# Altium footprint library 2019-03-18_20-52-44.PcbLib: 3 footprints
Each footprint in its own frame and in the unit in brackets; x right, y up, seen from the top. Pads: shape width x height; smd on the part's side, far side on the other; paste and mask are expansions set on the pad; w line width, h text height; cw(c..) or ccw(c..) is an arc to the next point about the centre after c.
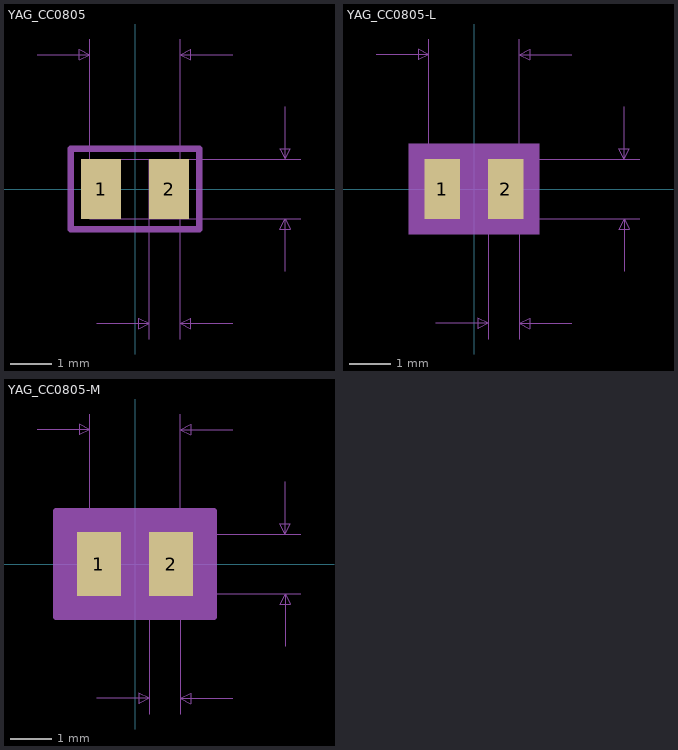
[diagram p0: the footprints below, top view; thin cyan lines are the x and y axes]

## YAG_CC0805 [mil]
pads (2):
  rect 38x57 smd paste+0 mask+0: 1(-32.5,0) 2(32.5,0)
Mechanical 7:
  lines w1: -93.5,128.5 -43.5,128.5 ; -43.5,0 -43.5,143.5 ; -36.5,-128.5 13.5,-128.5 ; 0,-28.5 158.5,-28.5 ; 0,28.5 158.5,28.5 ; 13.5,-143.5 13.5,0 ; 43.5,-143.5 43.5,0 43.5,143.5 ; 93.5,-128.5 43.5,-128.5 ; 93.5,128.5 43.5,128.5 ; 143.5,-78.5 143.5,-28.5 ; 143.5,78.5 143.5,28.5 ; -43.5,128.5 -53.5,123.5 -53.5,133.5 -43.5,128.5 ; 13.5,-128.5 3.5,-133.5 3.5,-123.5 13.5,-128.5 ; 43.5,-128.5 53.5,-133.5 53.5,-123.5 43.5,-128.5 ; 43.5,128.5 53.5,123.5 53.5,133.5 43.5,128.5 ; 143.5,-28.5 148.5,-38.5 138.5,-38.5 143.5,-28.5 ; 143.5,28.5 148.5,38.5 138.5,38.5 143.5,28.5
  text "0.03in/0.762mm" at -59,-173.5 h25
  text "0.087in/2.21mm" at -87.5,148.5 h25
  text "0.057in/1.448mm" at 163.5,-12.5 h25
  text "Alternate 2 Padstyle: b229_152h76" at -412.5,-498.5 h50
  text "Alternate 1 Padstyle: b152_229h76" at -412.5,-398.5 h50
  text "Default Padstyle: r97_145" at -312.5,-298.5 h50
Mechanical 13:
  lines w1: -43.5,-28.5 -43.5,28.5 ; -43.5,-28.5 43.5,-28.5 ; -43.5,-28.5 -13.5,-28.5 -13.5,28.5 -43.5,28.5 ; -43.5,-28.5 -43.5,28.5 ; -43.5,28.5 43.5,28.5 ; 43.5,-28.5 43.5,28.5 ; 43.5,-28.5 43.5,28.5 ; 43.5,-28.5 13.5,-28.5 13.5,28.5 43.5,28.5
Mechanical 15:
  lines w6: -61.5,-38.5 61.5,-38.5 61.5,38.5 -61.5,38.5 -61.5,-38.5
3D body: height 10, standoff 0, extent 0,0 10,10

## YAG_CC0805-L [mil]
pads (2):
  rect 34x57 smd paste+0 mask+0: 1(-30.5,0) 2(30.5,0)
Mechanical 5:
  region: 62.5,-43.5 -62.5,-43.5 -62.5,43.5 62.5,43.5
Mechanical 7:
  lines w1: -93.5,128.5 -43.5,128.5 ; -43.5,0 -43.5,143.5 ; -36.5,-128.5 13.5,-128.5 ; 0,-28.5 158.5,-28.5 ; 0,28.5 158.5,28.5 ; 13.5,-143.5 13.5,0 ; 43.5,-143.5 43.5,0 43.5,143.5 ; 93.5,-128.5 43.5,-128.5 ; 93.5,128.5 43.5,128.5 ; 143.5,-78.5 143.5,-28.5 ; 143.5,78.5 143.5,28.5 ; -43.5,128.5 -53.5,133.5 -53.5,123.5 -43.5,128.5 ; 13.5,-128.5 3.5,-123.5 3.5,-133.5 13.5,-128.5 ; 43.5,-128.5 53.5,-123.5 53.5,-133.5 43.5,-128.5 ; 43.5,128.5 53.5,133.5 53.5,123.5 43.5,128.5 ; 143.5,-28.5 138.5,-38.5 148.5,-38.5 143.5,-28.5 ; 143.5,28.5 138.5,38.5 148.5,38.5 143.5,28.5
  text "Default Padstyle: r86_145" at -312.5,-298.5 h50
  text "Alternate 1 Padstyle: b152_229h76" at -412.5,-398.5 h50
  text "Alternate 2 Padstyle: b229_152h76" at -412.5,-498.5 h50
  text "0.057in/1.448mm" at 163.5,-12.5 h25
  text "0.087in/2.21mm" at -87.5,148.5 h25
  text "0.03in/0.762mm" at -59,-173.5 h25
Mechanical 13:
  lines w1: -43.5,-28.5 -43.5,28.5 ; -43.5,-28.5 -13.5,-28.5 -13.5,28.5 -43.5,28.5 ; -43.5,-28.5 43.5,-28.5 ; -43.5,-28.5 -43.5,28.5 ; -43.5,28.5 43.5,28.5 ; 43.5,-28.5 13.5,-28.5 13.5,28.5 43.5,28.5 ; 43.5,-28.5 43.5,28.5 ; 43.5,-28.5 43.5,28.5
Mechanical 15:
  region: 51.5,-32.5 -51.5,-32.5 -51.5,32.5 51.5,32.5
  lines w6: -51.5,-32.5 -51.5,32.5 51.5,32.5 51.5,-32.5 -51.5,-32.5
3D body: height 10, standoff 0, extent 0,0 10,10

## YAG_CC0805-M [mil]
pads (2):
  rect 42x61 smd paste+0 mask+0: 1(-34.5,0) 2(34.5,0)
Mechanical 5:
  region: 70.5,-45.5 -70.5,-45.5 -70.5,45.5 70.5,45.5
Mechanical 7:
  lines w1: -93.5,128.5 -43.5,128.5 ; -43.5,0 -43.5,143.5 ; -36.5,-128.5 13.5,-128.5 ; 0,-28.5 158.5,-28.5 ; 0,28.5 158.5,28.5 ; 13.5,-143.5 13.5,0 ; 43.5,-143.5 43.5,0 43.5,143.5 ; 93.5,-128.5 43.5,-128.5 ; 93.5,128.5 43.5,128.5 ; 143.5,-78.5 143.5,-28.5 ; 143.5,78.5 143.5,28.5 ; -43.5,128.5 -53.5,133.5 -53.5,123.5 -43.5,128.5 ; 13.5,-128.5 3.5,-123.5 3.5,-133.5 13.5,-128.5 ; 43.5,-128.5 53.5,-123.5 53.5,-133.5 43.5,-128.5 ; 43.5,128.5 53.5,133.5 53.5,123.5 43.5,128.5 ; 143.5,-28.5 138.5,-38.5 148.5,-38.5 143.5,-28.5 ; 143.5,28.5 138.5,38.5 148.5,38.5 143.5,28.5
  text "Default Padstyle: r107_155" at -325,-300.5 h50
  text "Alternate 1 Padstyle: b152_229h76" at -412.5,-400.5 h50
  text "Alternate 2 Padstyle: b229_152h76" at -412.5,-500.5 h50
  text "0.057in/1.448mm" at 163.5,-12.5 h25
  text "0.087in/2.21mm" at -87.5,148.5 h25
  text "0.03in/0.762mm" at -59,-173.5 h25
Mechanical 13:
  lines w1: -43.5,-28.5 -43.5,28.5 ; -43.5,-28.5 -13.5,-28.5 -13.5,28.5 -43.5,28.5 ; -43.5,-28.5 43.5,-28.5 ; -43.5,-28.5 -43.5,28.5 ; -43.5,28.5 43.5,28.5 ; 43.5,-28.5 13.5,-28.5 13.5,28.5 43.5,28.5 ; 43.5,-28.5 43.5,28.5 ; 43.5,-28.5 43.5,28.5
Mechanical 15:
  region: 75.5,-50.5 -75.5,-50.5 -75.5,50.5 75.5,50.5
  lines w6: -75.5,-50.5 -75.5,50.5 75.5,50.5 75.5,-50.5 -75.5,-50.5
3D body: height 10, standoff 0, extent 0,0 10,10